# Altium footprint library VEML7700-TT.PCBLIB: 1 footprints
Each footprint in its own frame and in the unit in brackets; x right, y up, seen from the top. Pads: shape width x height; smd on the part's side, far side on the other; paste and mask are expansions set on the pad; w line width, h text height; cw(c..) or ccw(c..) is an arc to the next point about the centre after c.
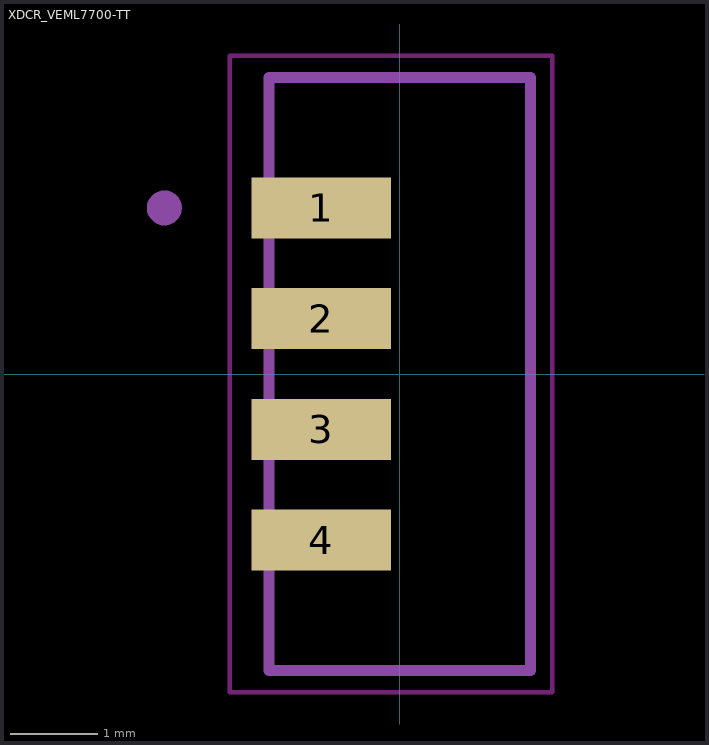
[diagram p0: the footprint, top view; thin cyan lines are the x and y axes]

## XDCR_VEML7700-TT [mm]
pads (4):
  rect 1.6x0.7 smd: 1(-0.9,1.905) 2(-0.9,0.635) 3(-0.9,-0.635) 4(-0.9,-1.905)
Top keep-out:
  lines w0.05: -1.95,-3.65 1.75,-3.65 1.75,3.65 -1.95,3.65 -1.95,-3.65
tDocu:
  circle w0.2: c-2.7,1.905 r0.1
  lines w0.127: -1.5,-3.4 -1.5,3.4 1.5,3.4 1.5,-3.4 -1.5,-3.4
tPlace:
  circle w0.2: c-2.7,1.905 r0.1
  lines w0.127: -1.5,-2.575 -1.5,-3.4 1.5,-3.4 1.5,3.4 -1.5,3.4 -1.5,2.575
3D body "VEML7700-TT--3DModel-STEP-56544.STEP": height 2.34, standoff -0.01, extent -1.5,-3.4 1.5,3.4